# Altium schematic symbol library CMWX1ZZABZ.SchLib: 1 symbol
Pins are listed as number, name and electrical type; pins without a type are passive.

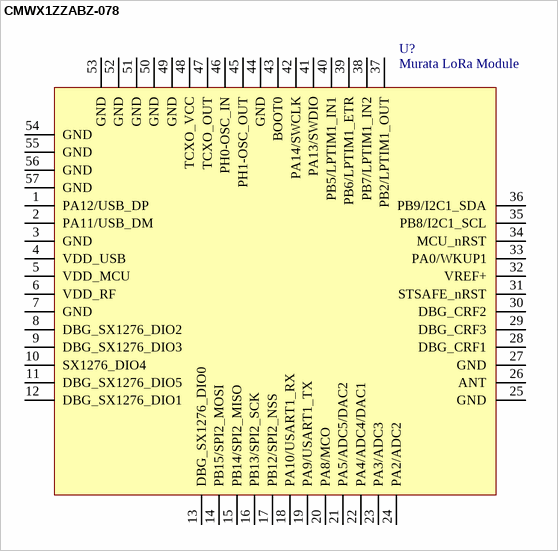
[diagram p0: symbol CMWX1ZZABZ-078]

## CMWX1ZZABZ-078
designator U?, comment Murata LoRa Module
Manufacturer P/N: LoRa Module ES0; Manufacturer: Murata; ECCN_US/UE: *; Fitted: *; Order Code Digikey: *; Order Code Farnell: *; Order Code RS: *; Provided by: Murata; Value: *
footprint CMWX1ZZABZ
pins: 1 PA12/USB_DP, 2 PA11/USB_DM, 3 GND, 4 VDD_USB, 5 VDD_MCU, 6 VDD_RF, 7 GND, 8 DBG_SX1276_DIO2, 9 DBG_SX1276_DIO3, 10 SX1276_DIO4, 11 DBG_SX1276_DIO5, 12 DBG_SX1276_DIO1, 13 DBG_SX1276_DIO0, 14 PB15/SPI2_MOSI, 15 PB14/SPI2_MISO, 16 PB13/SPI2_SCK, 17 PB12/SPI2_NSS, 18 PA10/USART1_RX, 19 PA9/USART1_TX, 20 PA8/MCO, 21 PA5/ADC5/DAC2, 22 PA4/ADC4/DAC1, 23 PA3/ADC3, 24 PA2/ADC2, 25 GND, 26 ANT, 27 GND, 28 DBG_CRF1, 29 DBG_CRF3, 30 DBG_CRF2, 31 STSAFE_nRST, 32 VREF+, 33 PA0/WKUP1, 34 MCU_nRST, 35 PB8/I2C1_SCL, 36 PB9/I2C1_SDA, 37 PB2/LPTIM1_OUT, 38 PB7/LPTIM1_IN2, 39 PB6/LPTIM1_ETR, 40 PB5/LPTIM1_IN1, 41 PA13/SWDIO, 42 PA14/SWCLK, 43 BOOT0, 44 GND, 45 PH1-OSC_OUT, 46 PH0-OSC_IN, 47 TCXO_OUT, 48 TCXO_VCC, 49 GND, 50 GND, 51 GND, 52 GND, 53 GND, 54 GND, 55 GND, 56 GND, 57 GND